# Altium schematic symbol library patricklib.SCHLIB: 33 symbols
Pins are listed as number, name and electrical type; pins without a type are passive.

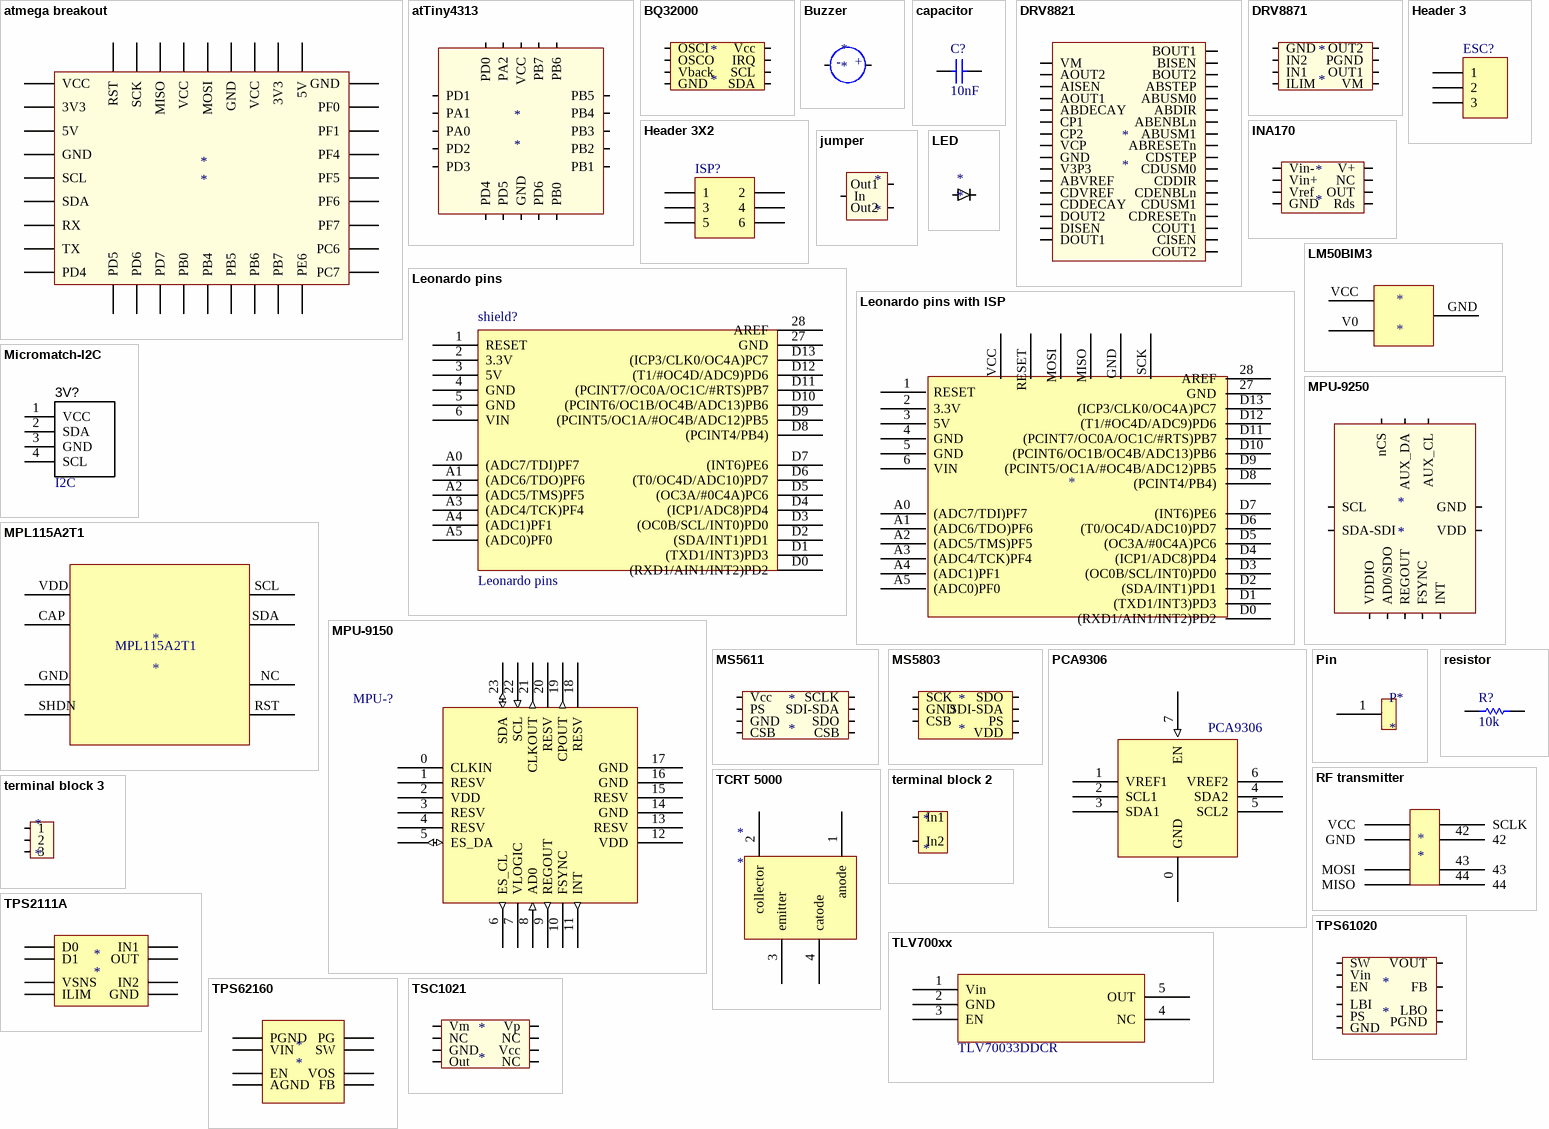
[diagram p0: symbols atmega breakout to TSC1021]

## atmega breakout
designator *
footprint ATmega32u4 breakout
pins: 1 VCC, 2 3V3, 3 5V, 4 GND, 5 SCL, 6 SDA, 7 RX, 8 TX, 9 PD4, 10 PD5, 11 PD6, 12 PD7, 13 PB0, 14 PB4, 15 PB5, 16 PB6, 17 PB7, 18 PE6, 19 PC7, 20 PC6, 21 PF7, 22 PF6, 23 PF5, 24 PF4, 25 PF1, 26 PF0, 27 GND, 28 5V, 29 3V3, 30 VCC, 31 GND, 32 MOSI, 33 VCC, 34 MISO, 35 SCK, 36 RST

## atTiny4313
designator *
footprint QFN45P300X300X100_HS-21N (QFN, 20-Leads, Body 3.00x3.00mm, Pitch 0.45mm, Thermal Pad 1.55x1.55mm, IPC Medium Density)
pins: 1 PD1, 2 PA1, 3 PA0, 4 PD2, 5 PD3, 6 PD4, 7 PD5, 8 GND, 9 PD6, 10 PB0, 11 PB1, 12 PB2, 13 PB3, 14 PB4, 15 PB5, 16 PB6, 17 PB7, 18 VCC, 19 PA2, 20 PD0

## BQ32000
designator *
footprint BQ3200
pins: 1 OSCI, 2 OSCO, 3 Vback, 4 GND, 5 SDA, 6 SCL, 7 IRQ, 8 Vcc

## Buzzer
designator *
footprint Buzzer
pins: 0, 1
text: -    +

## capacitor
designator C?, comment value 10nF  (hidden comment: capa)
Note: Footprint corresponds to dimensions for bulk cassette packaging. This case size has tightened tolerances.; Published: 17-Jul-2002; LatestRevisionDate: 19-Mar-2004; LatestRevisionNote: Silkscreen size reduced.; DatasheetDocument: Mar-2001; PackageDocument: Mar-2001; PackageReference: 0805; Publisher: Altium Limited; Code_JEITA: 0805; Code_IPC: 2012[0805]; ComponentLink1Description: Manufacturer Link; ComponentLink1URL: http://www.kemet.com/; ComponentLink2Description: Datasheet; ComponentLink2URL: http://www.kemet.com/kemet/web/homepage/kechome.nsf/vapubfilesname/F3102TA.pdf/$file/F3102TA.pdf
footprint MELF-R2012-0805 (Metal Electrode Face (MELF) Resistor; Body 2 x 1.4 mm (LxDia))
simulation model CAP (Capacitor)
signal-integrity model C0805
pins: 1, 2

## DRV8821
designator *
footprint HTSSOP_48_DRV8821 (TSSOP, 48-Leads, Body 12.50x6.10mm, Pitch 0.50mm, Thermal Pad 3.70x3.65mm, IPC Medium Density)
pins: 1 VM, 2 AOUT2, 3 AISEN, 4 AOUT1, 5 ABDECAY, 6 CP1, 7 CP2, 8 VCP, 9 GND, 10 V3P3, 11 ABVREF, 12 CDVREF, 13 CDDECAY, 14 DOUT2, 15 DISEN, 16 DOUT1, 17 COUT2, 18 CISEN, 19 COUT1, 20 CDRESETn, 21 CDUSM1, 22 CDENBLn, 23 CDDIR, 24 CDUSM0, 25 CDSTEP, 26 ABRESETn, 27 ABUSM1, 28 ABENBLn, 29 ABDIR, 30 ABUSM0, 31 ABSTEP, 32 BOUT2, 33 BISEN, 34 BOUT1

## DRV8871
designator *
footprint HSOP-thermal
pins: 1 GND, 2 IN2, 3 IN1, 4 ILIM, 5 VM, 6 OUT1, 7 PGND, 8 OUT2

## Header 3
designator ESC?  (value not drawn)
Header, 3-Pin; LatestRevisionDate: 17-Jul-2002; LatestRevisionNote: Re-released for DXP Platform.; Publisher: Altium Limited
footprint HDR1X3 (Connector; Header; 3 Position)
signal-integrity model Connector
pins: 1, 2, 3

## Header 3X2
designator ISP?  (value not drawn)
Header, 3-Pin, Dual row; LatestRevisionDate: 17-Jul-2002; LatestRevisionNote: Re-released for DXP Platform.; Publisher: Altium Limited
footprint HDR2X3 (Connector; Header; 3x2 Position)
signal-integrity model Connector
pins: 1, 2, 3, 4, 5, 6

## INA170
designator *
footprint INA170 (TSOP, 8-Leads, Body 3.00x3.00mm, Pitch 0.65mm, IPC Medium Density)
pins: 1 Vin-, 2 Vin+, 3 Vref, 4 GND, 5 Rds, 6 OUT, 7 NC, 8 V+

## jumper
designator *
footprint Jumper
pins: 1 In, 2 Out1, 3 Out2

## LED
designator *
footprint LED thru hole
pins: 0 45, 1 2

## Leonardo pins
designator shield?
footprint Leonardo pins
pins: 1 RESET, 2 3.3V, 3 5V, 4 GND, 5 GND, 6 VIN, 27 GND, 28 AREF, A0 (ADC7/TDI)PF7, A1 (ADC6/TDO)PF6, A2 (ADC5/TMS)PF5, A3 (ADC4/TCK)PF4, A4 (ADC1)PF1, A5 (ADC0)PF0, D0 (RXD1/AIN1/INT2)PD2, D1 (TXD1/INT3)PD3, D2 (SDA/INT1)PD1, D3 (OC0B/SCL/INT0)PD0, D4 (ICP1/ADC8)PD4, D5 (OC3A/#0C4A)PC6, D6 (T0/OC4D/ADC10)PD7, D7 (INT6)PE6, D8 (PCINT4/PB4), D9 (PCINT5/OC1A/#OC4B/ADC12)PB5, D10 (PCINT6/OC1B/OC4B/ADC13)PB6, D11 (PCINT7/OC0A/OC1C/#RTS)PB7, D12 (T1/#OC4D/ADC9)PD6, D13 (ICP3/CLK0/OC4A)PC7

## Leonardo pins with ISP
designator *  (value not drawn)
footprint Leonardo pins with ISP
pins: 1 RESET, 2 3.3V, 3 5V, 4 GND, 5 GND, 6 VIN, 27 GND, 28 AREF, A0 (ADC7/TDI)PF7, A1 (ADC6/TDO)PF6, A2 (ADC5/TMS)PF5, A3 (ADC4/TCK)PF4, A4 (ADC1)PF1, A5 (ADC0)PF0, D0 (RXD1/AIN1/INT2)PD2, D1 (TXD1/INT3)PD3, D2 (SDA/INT1)PD1, D3 (OC0B/SCL/INT0)PD0, D4 (ICP1/ADC8)PD4, D5 (OC3A/#0C4A)PC6, D6 (T0/OC4D/ADC10)PD7, D7 (INT6)PE6, D8 (PCINT4/PB4), D9 (PCINT5/OC1A/#OC4B/ADC12)PB5, D10 (PCINT6/OC1B/OC4B/ADC13)PB6, D11 (PCINT7/OC0A/OC1C/#RTS)PB7, D12 (T1/#OC4D/ADC9)PD6, D13 (ICP3/CLK0/OC4A)PC7, GND D18, MISO D17, MOSI D16, RESET D15, SCK D19, VCC D14

## LM50BIM3
designator *
footprint LM50BIM3 (Temperature sensor)
pins: GND, V0, VCC VS

## Micromatch-I2C
designator 3V?, comment I2C
Micromatch I2C Connector
footprint TYCO/215079-4
pins: 1 VCC, 2 SDA, 3 GND, 4 SCL

## MPL115A2T1
designator *
footprint MPL115A2T1
pins: CAP D21, GND D22, NC, RST D27, SCL D24, SDA D25, SHDN D23, VDD D20

## MPU-9150
designator MPU-?, comment 9-axis  (value not drawn)
9-axis sensor (gyroscope, accelerometre, magnétomètre)
footprint PCBComponent_1 - duplicate
pins: 0 CLKIN, 1 RESV, 2 VDD (power), 3 RESV, 4 RESV, 5 ES_DA (io), 6 ES_CL (out), 7 VLOGIC (power), 8 AD0 (in), 9 REGOUT (out), 10 FSYNC, 11 INT (out), 12 VDD (power), 13 RESV, 14 GND (power), 15 RESV, 16 GND (power), 17 GND (power), 18 RESV, 19 CPOUT (out), 20 RESV, 21 CLKOUT (out), 22 SCL (in), 23 SDA (io)

## MPU-9250
designator *
footprint MPU-9250 2
pins: 7 AUX_CL "7", 8 VDDIO, 9 AD0/SDO, 10 REGOUT, 11 FSYNC, 12 INT, 13 VDD, 18 GND, 21 AUX_DA, 22 nCS "22", 23 SCL, 24 SDA-SDI

## MS5611
designator *
footprint MS5611 (barometer Meas Spec)
pins: 1 Vcc, 2 PS, 3 GND, 4 CSB, 5 CSB, 6 SDO, 7 SDI-SDA, 8 SCLK

## MS5803
designator *
footprint MSB5803
pins: 1 SCK, 2 GND, 3 CSB, 5 VDD, 6 PS, 7 SDI-SDA, 8 SDO

## PCA9306
designator PCA?
I²C voltage shifter
footprint TSOP65P490X110-8N (TSOP, 8-Leads, Body 3,00x3,00mm, Pitch 0,65mm, IPC Medium Density); pin to pad 0>1 1>2 2>3 3>4 4>5 5>6 6>7 7>8
pins: 0 GND (power), 1 VREF1 (power), 2 SCL1 (power), 3 SDA1 (power), 4 SDA2 (power), 5 SCL2 (power), 6 VREF2 (power), 7 EN (in)

## Pin
designator P*
footprint Pin
pins: 1

## resistor
designator R?  value 10k
Resistor; Published: 8-Jun-2000; LatestRevisionDate: 17-Jul-2002; LatestRevisionNote: Re-released for DXP Platform.; PackageReference: AXIAL-0.3; Publisher: Altium Limited; PackageDescription: Axial Device, Thru-Hole; 2 Leads; 0.3 in Pin Spacing
footprint MELF-R2012-0805 (Metal Electrode Face (MELF) Resistor; Body 2 x 1.4 mm (LxDia))
simulation model RESISTOR (Resistor)
signal-integrity model Res
pins: 1, 2

## RF transmitter
designator *
pins: 0 VCC, 1 GND, 2 MOSI, 3 MISO, 4 SCLK, 42, 43, 44

## TCRT 5000
designator *
footprint TCRT5000
pins: 1 anode, 2 collector, 3 emitter, 4 catode

## terminal block 2
designator *
footprint terminal block 2
pins: 1 In1, 2 In2

## terminal block 3
designator *
footprint Terminal block 3
pins: 1, 2, 3

## TLV700xx
designator P??, comment TLV70033DDCR
Header, 2-Pin; LatestRevisionDate: 17-Jul-2002; LatestRevisionNote: Re-released for DXP Platform.; Publisher: Altium Limited
footprint TLV70033DDCR (SOT23, 5-Leads, Body 3.0x3.0mm (max), Pitch 0.95mm, IPC Medium Density)
pins: 1 Vin, 2 GND, 3 EN, 4 NC, 5 OUT

## TPS2111A
designator *
footprint SOP8
pins: 1 D0, 2 D1, 3 VSNS, 4 ILIM, 5 GND, 6 IN2, 7 OUT, 8 IN1

## TPS61020
designator *
footprint SON50P300X100_HS-11N (SON, 10-Leads, Body 3.00x3.00mm, Pitch 0.50mm, Thermal Pad 2.40x1.49mm, IPC Medium Density)
pins: 1 EN, 2 VOUT, 3 FB, 4 LBO, 5 GND, 6 Vin, 7 LBI, 8 PS, 9 SW, 10 PGND

## TPS62160
designator *
footprint MSOP8
pins: 1 PGND, 2 VIN, 3 EN, 4 AGND, 5 FB, 6 VOS, 7 SW, 8 PG

## TSC1021
designator *
footprint TSC1021 (TSOP, 8-Leads, Body 3.00x4.40mm, Pitch 0.65mm, IPC Medium Density)
pins: 1 Vm, 2 NC, 3 GND, 4 Out, 5 NC, 6 Vcc, 7 NC, 8 Vp